# Altium footprint library Diode_Fairchild-ON_Semiconductor_LL4148_eec_0.PcbLib: 1 footprints
Each footprint in its own frame and in the unit in brackets; x right, y up, seen from the top. Pads: shape width x height; smd on the part's side, far side on the other; paste and mask are expansions set on the pad; w line width, h text height; cw(c..) or ccw(c..) is an arc to the next point about the centre after c.
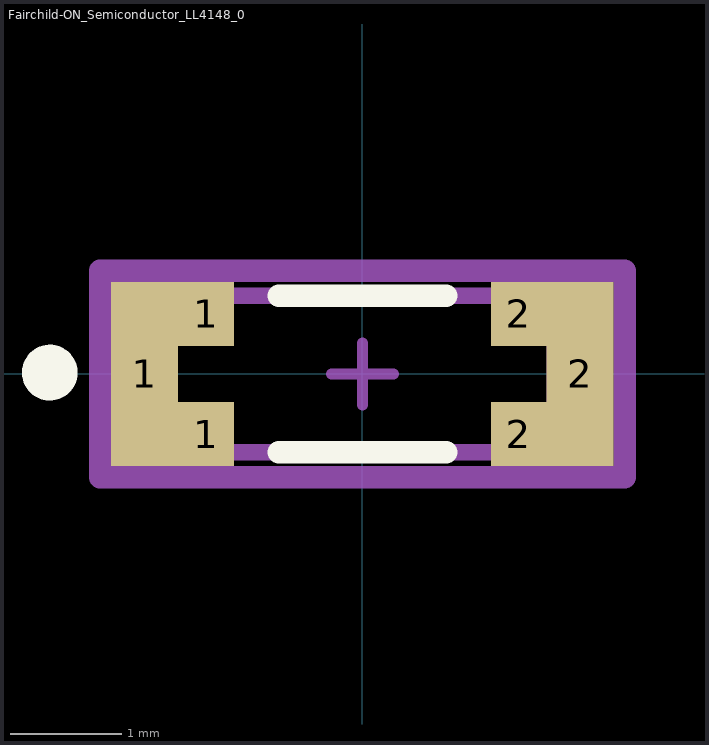
[diagram p0: the footprint, top view; thin cyan lines are the x and y axes]

## Fairchild-ON_Semiconductor_LL4148_0 [mm]
pads (6):
  rect 0.6x1.65 smd paste+0 mask+0: 1(-1.95,0) 2(1.95,0)
  rect 0.5x0.575 smd paste+0 mask+0: 1(-1.4,-0.537) 1(-1.4,0.537) 2(1.4,-0.537) 2(1.4,0.537)
Top Overlay:
  circle w0.25: c-2.8,0.012 r0.125
  lines w0.2: -0.75,-0.7 0.75,-0.7 ; -0.75,0.7 0.75,0.7
Mechanical 10:
  lines w0.2: -2.35,-0.925 2.35,-0.925 2.35,0.925 -2.35,0.925 -2.35,-0.925
  text ".Designator" at 0,0 h1
Mechanical 12:
  lines w0.15: -1.725,-0.7 1.725,-0.7 1.725,0.7 -1.725,0.7 -1.725,-0.7
Mechanical 15:
  lines w0.1: -0.278,0 0.278,0 ; 0,-0.278 0,0.278
  lines w0.2: -2.35,-0.925 2.35,-0.925 2.35,0.925 -2.35,0.925 -2.35,-0.925
3D body "3dmodel.step": height 0.25, standoff 0, extent -2.35,-0.925 2.35,0.925